# EAGLE library part LM2670S-3.3/NOPB.. (library LM2670S-3.3)
IC, SIMPLE SWITCHER High Efficiency 3A Step-Down Voltage Regulator with Sync, 3.3V, TO263-7
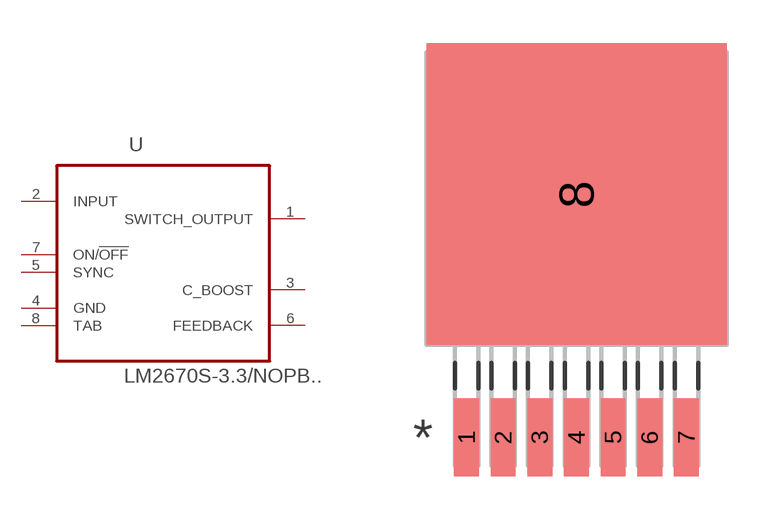
[diagram p0: symbol with the pads of TO127P1435X457-8N; footprint TO127P1435X457-8N]

Designator prefix U

## LM2670S-3.3/NOPB.. (MPN: LM2670S-3.3/NOPB..; OC_FARNELL: 2113945; OC_NEWARK: 95T9127; PACKAGE: TO-263-7; SUPPLIER: TEXAS INSTRUMENTS)  [TO127P1435X457-8N]
1  SWITCH_OUTPUT  out
2  INPUT  in
3  C_BOOST  pas
4  GND  pas
5  SYNC  pas
6  FEEDBACK  in
7  ON/!OFF!  in
8  TAB  pas

## Footprint TO127P1435X457-8N (pad centres in mm)
smd 0.864 x 2.692: 1 -3.81,-8.28; 2 -2.54,-8.28; 3 -1.27,-8.28; 4 0,-8.28; 5 1.27,-8.28; 6 2.54,-8.28; 7 3.81,-8.28
smd 10.414 x 10.465: 8 0,0.152